# EAGLE library part PINHD-1X8 (library SquantorConnectors)
PIN HEADER
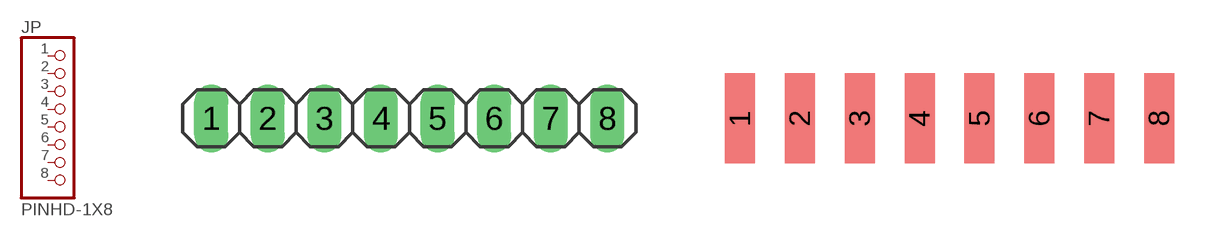
[diagram p8: symbol with the pads of 1X08; footprints 1X08, 1X08SIDE]

Designator prefix JP

## PINHD-1X8TH_NORMAL  [1X08]
1  1  pas
2  2  pas
3  3  pas
4  4  pas
5  5  pas
6  6  pas
7  7  pas
8  8  pas

## PINHD-1X8SIDE_SMD  [1X08SIDE]
Pads as for 1X08

## Footprint 1X08 (pad centres in mm)
PIN HEADER
drill 1.016 long: 1 -8.89,0; 2 -6.35,0; 3 -3.81,0; 4 -1.27,0; 5 1.27,0; 6 3.81,0; 7 6.35,0; 8 8.89,0

## Footprint 1X08SIDE (pad centres in mm)
smd 1.27 x 3.81: 1 -8.89,0; 2 -6.35,0; 3 -3.81,0; 4 -1.27,0; 5 1.27,0; 6 3.81,0; 7 6.35,0; 8 8.89,0